# Altium footprint library CAP_C4532X7R1H685M250KB.PcbLib: 1 footprints
Each footprint in its own frame and in the unit in brackets; x right, y up, seen from the top. Pads: shape width x height; smd on the part's side, far side on the other; paste and mask are expansions set on the pad; w line width, h text height; cw(c..) or ccw(c..) is an arc to the next point about the centre after c.
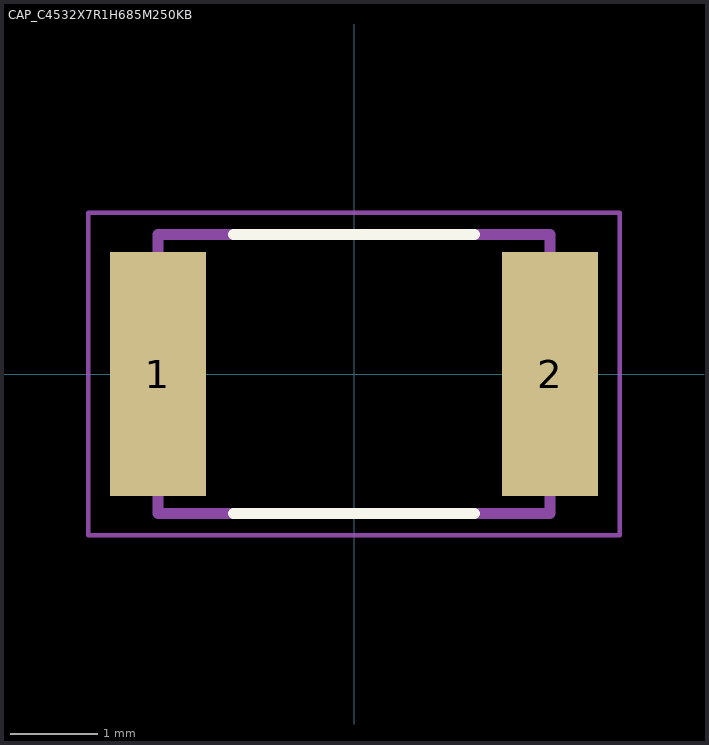
[diagram p0: the footprint, top view; thin cyan lines are the x and y axes]

## CAP_C4532X7R1H685M250KB [mm]
height 3.6
pads (2):
  rect 1.1x2.8 smd: 1(-2.25,0) 2(2.25,0)
Top Overlay:
  lines w0.127: -1.38,-1.6 1.38,-1.6 ; -1.38,1.6 1.38,1.6
Assembly Top:
  lines w0.127: -2.25,-1.6 -2.25,1.6 2.25,1.6 2.25,-1.6 -2.25,-1.6
Top Courtyard:
  lines w0.05: -3.05,-1.85 -3.05,1.85 3.05,1.85 3.05,-1.85 -3.05,-1.85
3D body "step_temp.STEP": height 2.8, standoff 0, extent -2.25,-1.6 2.25,1.6